# EAGLE library part HMS_X-P (library sc_usercreated)
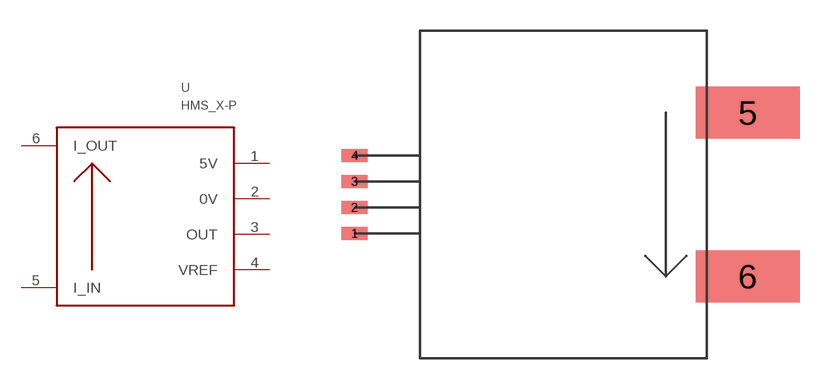
[diagram p9: symbol with the pads of HMS_X-P; footprint HMS_X-P]

Designator prefix U

## HMS_X-P  [HMS_X-P]
1  5V
2  0V
3  OUT
4  VREF
5  I_IN
6  I_OUT

## Footprint HMS_X-P (pad centres in mm)
smd 1.27 x 0.635: 1 -3.2,-1.905; 2 -3.2,-0.635; 3 -3.2,0.635; 4 -3.2,1.905
smd 5.08 x 2.54: 5 16,4; 6 16,-4